# Altium schematic symbol library ERJ-2RKF1003X.SchLib: 1 symbol
Pins are listed as number, name and electrical type; pins without a type are passive.

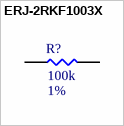
[diagram p0: symbol ERJ-2RKF1003X]

## ERJ-2RKF1003X
designator R?  Resistance: 100k  Tolerance: 1%  (hidden comment: ERJ-2RKF1003X)
RES SMD 100K OHM 1% 1/10W 0402; MFR: Panasonic Electronic Components; PN: ERJ-2RKF1003X; Footprint: RES0402; Package: 0402; ComponentLink1Description: Datasheet; ComponentLink1URL: https://industrial.panasonic.com/cdbs/www-data/pdf/RDA0000/AOA0000C304.pdf; Power Rating: 1/10W; Supplier 1: Digi-Key; Supplier Part Number 1: P100KLCT-ND
footprint RES0402 (Generic 0402 PCB Footprint)
pins: 1, 2